# EAGLE library part CAT4016 (library CAT4016)
16-Channel Constant Current LED Driver
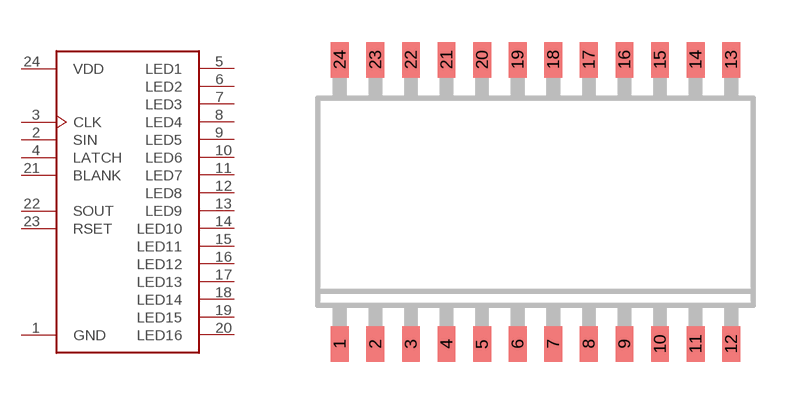
[diagram p0: symbol with the pads of SOIC24W; footprint SOIC24W]

Designator prefix -

## CAT4016  [SOIC24W]
1  GND
2  SIN
3  CLK
4  LATCH
5  LED1
6  LED2
7  LED3
8  LED4
9  LED5
10  LED6
11  LED7
12  LED8
13  LED9
14  LED10
15  LED11
16  LED12
17  LED13
18  LED14
19  LED15
20  LED16
21  BLANK
22  SOUT
23  RSET
24  VDD

## Footprint SOIC24W (pad centres in mm)
smd 0.635 x 1.27: 1 -6.985,-5.08; 2 -5.715,-5.08; 3 -4.445,-5.08; 4 -3.175,-5.08; 5 -1.905,-5.08; 6 -0.635,-5.08; 7 0.635,-5.08; 8 1.905,-5.08; 9 3.175,-5.08; 10 4.445,-5.08; 11 5.715,-5.08; 12 6.985,-5.08; 13 6.985,5.08; 14 5.715,5.08; 15 4.445,5.08; 16 3.175,5.08; 17 1.905,5.08; 18 0.635,5.08; 19 -0.635,5.08; 20 -1.905,5.08; 21 -3.175,5.08; 22 -4.445,5.08; 23 -5.715,5.08; 24 -6.985,5.08